# Altium schematic symbol library GhaniLibrary.SchLib: 30 symbols
Pins are listed as number, name and electrical type; pins without a type are passive.

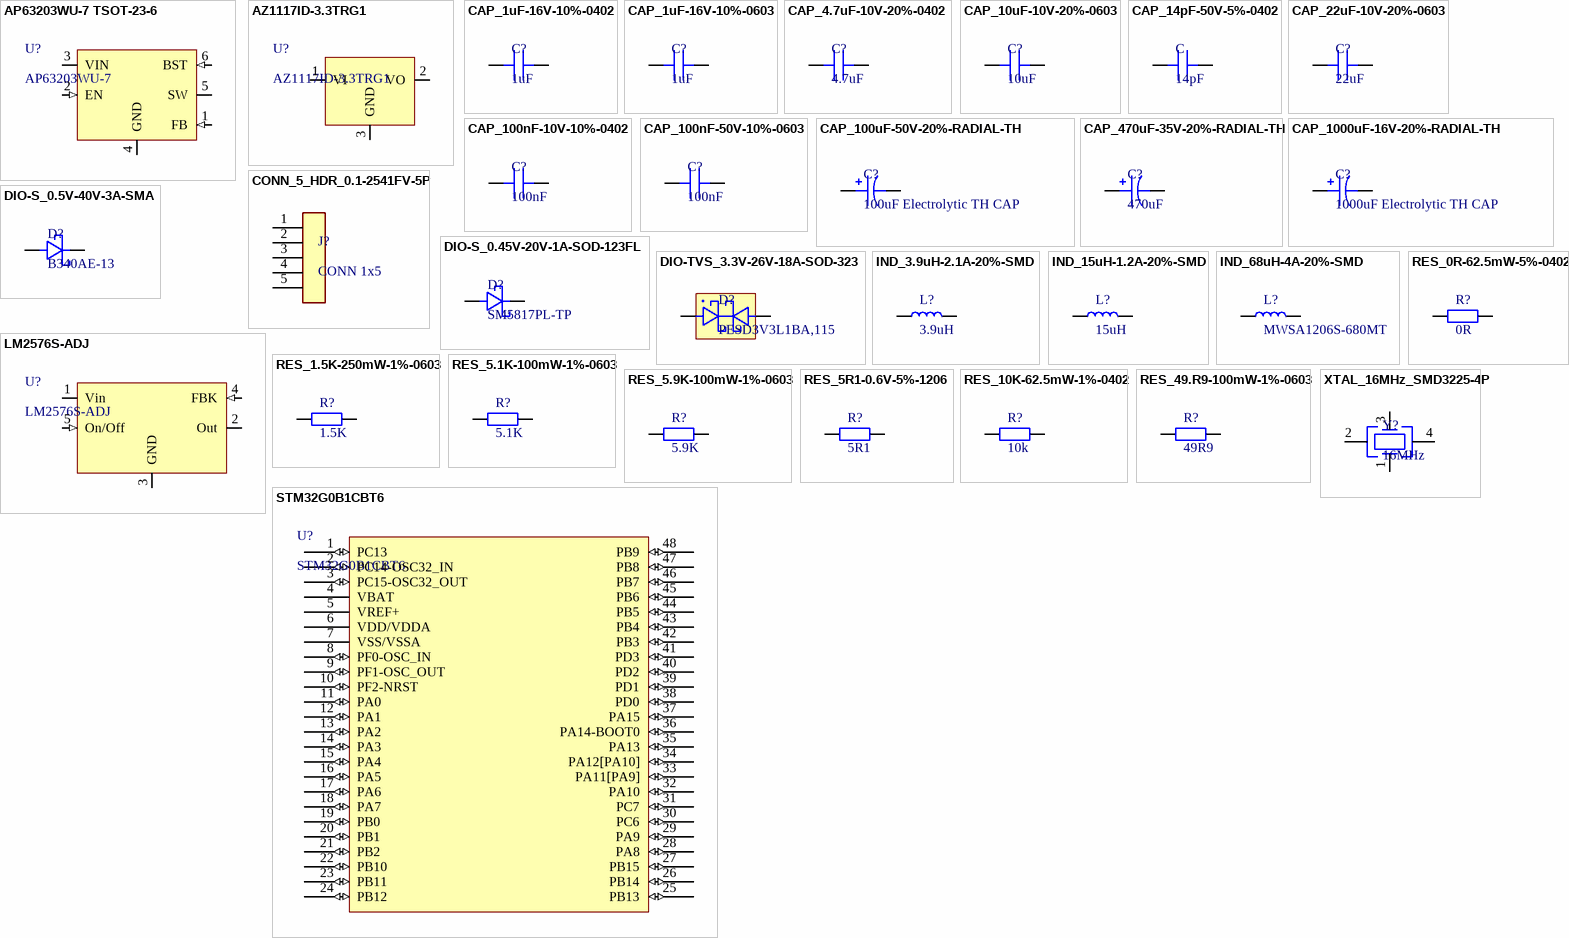
[diagram p0: symbols AP63203WU-7 TSOT-23-6 to XTAL_16MHz_SMD3225-4P]

## AP63203WU-7 TSOT-23-6
designator U?, comment AP63203WU-7
Buck Switching Regulator IC Positive Fixed 3.3V 1 Output 2A SOT-23-6 Thin, TSOT-23-6; Manufacturer: Diodes Incorporated; Manufacturer Part #: AP63203WU-7; Case/Package: TSOT-23-6; Supplier: JLCPCB; Supplier Part #: C780769
pins: 1 FB (in), 2 EN (in), 3 VIN (power), 4 GND (power), 5 SW (power), 6 BST (in)

## AZ1117ID-3.3TRG1
designator U?
Linear Voltage Regulator IC Positive Fixed 1 Output 1A TO-252-3; Manufacturer: Diodes Incorporated; Manufacturer Part #: AZ1117ID-3.3TRG1; Case/Package: TO-252-2; Supplier: JLCPCB; Supplier Part #: C2926306
pins: 1 VI (power), 2 VO (power), 3 GND (power)

## CAP_1uF-16V-10%-0402
designator C?, comment 1uF
1 µF ±10% 16V Ceramic Capacitor X5R 0402 (1005 Metric); Manufacturer: Samsung Electro-Mechanics; Manufacturer Part #: CL05A105KO5NNNC; Case/Package: 0402; Supplier: JLCPCB; Supplier Part #: C29266
footprint CAP_0402 (Chip Capacitor, 2-Leads, Body 1.00x0.50mm, IPC Medium Density)
pins: 1 0, 2 0

## CAP_1uF-16V-10%-0603
designator C?, comment 1uF
1 µF ±10% 16V Ceramic Capacitor X7R 0603 (1608 Metric); Manufacturer: YAGEO; Manufacturer Part #: CC0603KRX7R7BB105; Case/Package: 0603; Supplier: JLCPCB; Supplier Part #: C106248
footprint CAP_0603 (Chip Capacitor, 2-Leads, Body 1.60x0.80mm, IPC Medium Density)
pins: 1 0, 2 0

## CAP_4.7uF-10V-20%-0402
designator C?, comment 4.7uF
4.7 µF ±20% 10V Ceramic Capacitor X5R 0402 (1005 Metric); Manufacturer: Samsung Electro-Mechanics; Manufacturer Part #: CL05A475MP5NRNC; Case/Package: 0402; Supplier: JLCPCB; Supplier Part #: Supplier Part #
footprint CAP_0402 (Chip Capacitor, 2-Leads, Body 1.00x0.50mm, IPC Medium Density)
pins: 1 0, 2 0

## CAP_10uF-10V-20%-0603
designator C?, comment 10uF
10 µF ±20% 10V Ceramic Capacitor X5R 0603 (1608 Metric); Manufacturer: Murata Electronics; Manufacturer Part #: GRM188R61A106ME69D; Case/Package: 0603; Supplier: JLCPCB; Supplier Part #: C90053
footprint CAP_0603 (Chip Capacitor, 2-Leads, Body 1.60x0.80mm, IPC Medium Density)
pins: 1 0, 2 0

## CAP_14pF-50V-5%-0402
designator C, comment 14pF
50V 14pF NP0 ±5% 0402 Multilayer Ceramic Capacitors MLCC - SMD/SMT ROHS; Manufacturer: Walsin Tech Corp; Manufacturer Part #: 0402N140J500CT; Case/Package: 0402; Supplier: JLCPCB; Supplier Part #: C458857
footprint CAP_0402 (Chip Capacitor, 2-Leads, Body 1.00x0.50mm, IPC Medium Density)
pins: 1 0, 2 0

## CAP_22uF-10V-20%-0603
designator C?, comment 22uF
22 µF ±20% 10V Ceramic Capacitor X5R 0603 (1608 Metric); Manufacturer: Samsung Electro-Mechanics; Manufacturer Part #: CL10A226MP8NUNE; Case/Package: 0603; Supplier: JLCPCB; Supplier Part #: C86295
footprint CAP_0603 (Chip Capacitor, 2-Leads, Body 1.60x0.80mm, IPC Medium Density)
pins: 1 0, 2 0

## CAP_100nF-10V-10%-0402
designator C?, comment 100nF
0.1 µF ±10% 10V Ceramic Capacitor X7R 0402 (1005 Metric); Manufacturer: Samsung Electro-Mechanics; Manufacturer Part #: CL05B104KP5NNNC; Case/Package: 0402; Supplier: JLCPCB; Supplier Part #: C133086
footprint CAP_0402 (Chip Capacitor, 2-Leads, Body 1.00x0.50mm, IPC Medium Density)
pins: 1 0, 2 0

## CAP_100nF-50V-10%-0603
designator C?, comment 100nF
0.1 µF ±10% 50V Ceramic Capacitor X7R 0603 (1608 Metric); Manufacturer: KEMET; Manufacturer Part #: C0603C104K5RACAUTO; Case/Package: 0603; Supplier: JLCPCB; Supplier Part #: C129621
footprint CAP_0603 (Chip Capacitor, 2-Leads, Body 1.60x0.80mm, IPC Medium Density)
pins: 1 0, 2 0

## CAP_100uF-50V-20%-RADIAL-TH
designator C?, comment 100uF Electrolytic TH CAP
100 µF 50 V Aluminum Electrolytic Capacitors Radial, Can 8000 Hrs @ 105°C; Manufacturer: Rubycon; Manufacturer Part #: 50ZLH100MEFC8X11.5; Case/Package: TH,D8xL11.5mm; Supplier: JLCPCB; Supplier Part #: C109393
footprint CAP-THT-Radial__D5.0mmP3.5mm
pins: 1 0, 2 0

## CAP_470uF-35V-20%-RADIAL-TH
designator C?, comment 470uF
470 µF 35 V Aluminum Electrolytic Capacitors Radial, Can 10000 Hrs @ 105°C; Manufacturer: Rubycon; Manufacturer Part #: 35ZLH470MEFC10X16; Case/Package: TH,D10xL16mm; Supplier: JLCPCB; Supplier Part #: C338196
footprint CAP-THT_RADIAL_D10.00mm_P5.00mm
pins: 1 0, 2 0

## CAP_1000uF-16V-20%-RADIAL-TH
designator C?, comment 1000uF Electrolytic TH CAP
1000 µF 16 V Aluminum Electrolytic Capacitors Radial, Can 10000 Hrs @ 105°C; Manufacturer: Rubycon; Manufacturer Part #: 16ZLH1000MEFC10X16; Case/Package: TH,D10xL16mm; Supplier: JLCPCB; Supplier Part #: C338175
footprint CAP-THT_RADIAL_D10.00mm_P5.00mm
pins: 1 0, 2 0

## CONN_5_HDR_0.1-2541FV-5P
designator J?, comment CONN 1x5
2.54mm 3A Single Row -40℃~+105℃ 250V 5P Direct Insert 1x5P Top Square Hole Plugin,P=2.54mm Female Headers ROHS; Manufacturer: HanElectricity; Manufacturer Part #: 2541FV-5P; Case/Package: P=2.54mm; Supplier: JLCPCB; Supplier Part #: C18723050
pins: 1, 2, 3, 4, 5

## DIO-S_0.5V-40V-3A-SMA
designator D?, comment B340AE-13
Diode 40 V 3A Surface Mount SMA; Manufacturer: DIODES INCORPORATED; Manufacturer Part #: B340AE-13; Case/Package: SMA; Supplier: JLCPCB; Supplier Part #: C168859
footprint DO-214AC, SMA
pins: A 1, K 2

## DIO-S_0.45V-20V-1A-SOD-123FL
designator D?, comment SM5817PL-TP
Diode 20 V 1A Surface Mount SOD-123FL; Manufacturer: MCC(Micro Commercial Components); Manufacturer Part #: SM5817PL-TP; Case/Package: SOD-123FL; Supplier: JLCPCB; Supplier Part #: C669022
pins: A 1, K 2

## DIO-TVS_3.3V-26V-18A-SOD-323
designator D?, comment PESD3V3L1BA,115
26V Clamp 18A (8/20µs) Ipp Tvs Diode Surface Mount SOD-323; Manufacturer: Nexperia; Manufacturer Part #: PESD3V3L1BA,115; Case/Package: SOD-323; Supplier: JLCPCB; Supplier Part #: C51450
footprint SC-76, SOD-323 (SODFL, 2-Leads, Body 1.25x2.50mm, IPC Medium Density)
pins: K1 1, K2 2

## IND_3.9uH-2.1A-20%-SMD
designator L?, comment 3.9uH
3.9 µH Shielded Drum Core, Wirewound Inductor 1.5 A 115mOhm Max Nonstandard; Manufacturer: Sunlord; Manufacturer Part #: SPH3015H3R9MT; Case/Package: SMD,3x3mm; Supplier: JLCPCB; Supplier Part #: C431700
footprint IND_SMD-3.00MMX3.00MM (Precision Wire Wound Inductor, 2-Leads, Body 3.00x3.00mm, IPC Medium Density)
pins: 1, 2

## IND_15uH-1.2A-20%-SMD
designator L?, comment 15uH
15 µH Shielded Drum Core, Wirewound Inductor 1.2 A 198mOhm Max Nonstandard; Manufacturer: Taiyo Yuden; Manufacturer Part #: NRS5020T150MMGJ; Case/Package: SMD,4.9x4.9mm; Supplier: JLCPCB; Supplier Part #: C222920
footprint IND-SMD_ 4.90x4.90mm (Precision Wire Wound Inductor, 2-Leads, Body 4.90x4.90mm, IPC Medium Density)
pins: 1, 2

## IND_68uH-4A-20%-SMD
designator L?, comment MWSA1206S-680MT
68 µH Shielded Drum Core, Wirewound Inductor 4 A 140mOhm Max Nonstandard; Manufacturer: Sunlord; Manufacturer Part #: MWSA1206S-680MT; Case/Package: SMD,13.5x12.6mm; Supplier: JLCPCB; Supplier Part #: C408532
footprint IND-SMD_13.45x12.45mm (Precision Wire Wound Inductor, 2-Leads, Body 13.45x12.45mm, IPC Medium Density)
pins: 1, 2

## LM2576S-ADJ
designator U?
Buck Switching Regulator IC Positive Adjustable 1 Output 3A TO-263-6, D2PAK (5 Leads + Tab), TO-263BA; Manufacturer: UMW(Youtai Semiconductor Co., Ltd.); Manufacturer Part #: LM2576S-ADJ; Case/Package: TO-263-5; Supplier: JLCPCB; Supplier Part #: C347415
footprint TO-263-6, D2PAK (5 Leads + Tab), TO-263BA (D2-PAK, 6-Pads (5 Leads + Tab), Body 7.55x8.56mm (max), IPC Medium Density)
pins: 1 Vin (power), 2 Out (power), 3 GND (power), 4 FBK (in), 5 On/Off (in)

## RES_0R-62.5mW-5%-0402
designator R?, comment 0R
0 Ohms Jumper Chip Resistor 0402 (1005 Metric) Moisture Resistant Thick Film; Manufacturer: YAGEO; Manufacturer Part #: RC0402JR-070RL; Case/Package: 0402; Supplier: JLCPCB; Supplier Part #: C60485
footprint RES_0402 (Chip Resistor, 2-Leads, Body 1.00x0.50mm, IPC Medium Density)
pins: 1, 2

## RES_1.5K-250mW-1%-0603
designator R?, comment 1.5K
RES 1.5K OHM 1% 250mW SMD-0603 Thick film Resistor; Manufacturer: PANASONIC; Manufacturer Part #: ERJPA3F1501V; Case/Package: 0603; Supplier: JLCPCB; Supplier Part #: C543357
footprint RES_0603 (Chip Resistor, 2-Leads, Body 1.60x0.80mm, IPC Medium Density)
pins: 1, 2

## RES_5.1K-100mW-1%-0603
designator R?, comment 5.1K
5.1 kOhms ±1% 0.1W, 1/10W Chip Resistor 0603 (1608 Metric) Moisture Resistant Thick Film; Manufacturer: YAGEO; Manufacturer Part #: RC0603FR-075K1L; Case/Package: 0603; Supplier: JLCPCB; Supplier Part #: C105580
footprint RES_0603 (Chip Resistor, 2-Leads, Body 1.60x0.80mm, IPC Medium Density)
pins: 1, 2

## RES_5.9K-100mW-1%-0603
designator R?, comment 5.9K
RES 5.9K OHM 1% 100mW SMD-0603 Thick film Resistor; Manufacturer: PANASONIC; Manufacturer Part #: ERJ3EKF5901V; Case/Package: 0603; Supplier: JLCPCB; Supplier Part #: C403290
footprint RES_0603 (Chip Resistor, 2-Leads, Body 1.60x0.80mm, IPC Medium Density)
pins: 1, 2

## RES_5R1-0.6V-5%-1206
designator R?, comment 5R1
600mW Thick Film Resistors 200V ±5% ±400ppm/℃ 5.1Ω 1206 Chip Resistor - Surface Mount; Manufacturer: UNI-ROYAL(Uniroyal Elec); Manufacturer Part #: AS0606J051JT5E; Case/Package: 1206; Supplier: JLCPCB; Supplier Part #: C966043
footprint RES_1206 (Chip Resistor, 2-Leads, Body 3.10x1.60mm, IPC Medium Density)
pins: 1, 2

## RES_10K-62.5mW-1%-0402
designator R?, comment 10k
10 kOhms ±1% 0.063W, 1/16W Chip Resistor 0402 (1005 Metric) Moisture Resistant Thick Film; Manufacturer: YAGEO; Manufacturer Part #: RC0402FR-0710KL; Case/Package: 0402; Supplier: JLCPCB; Supplier Part #: C60490
footprint RES_0402 (Chip Resistor, 2-Leads, Body 1.00x0.50mm, IPC Medium Density)
pins: 1, 2

## RES_49.R9-100mW-1%-0603
designator R?, comment 49R9
49.9 Ohms ±1% 0.1W, 1/10W Chip Resistor 0603 (1608 Metric) Automotive AEC-Q200 Thick Film; Manufacturer: PANASONIC; Manufacturer Part #: ERJ3EKF49R9V; Case/Package: 0603; Supplier: JLCPCB; Supplier Part #: C403255
footprint RES_0603 (Chip Resistor, 2-Leads, Body 1.60x0.80mm, IPC Medium Density)
pins: 1, 2

## STM32G0B1CBT6
designator U?
ARM® Cortex®-M0+ STM32G0 Microcontroller IC 32-Bit Single-Core 64MHz 128KB (128K x 8) FLASH 48-LQFP (7x7); Manufacturer: STMicroelectronics; Manufacturer Part #: STM32G0B1CBT6; Case/Package: 48-LQFP (7x7); Supplier: JLCPCB; Supplier Part #: C2847904
footprint 48-LQFP (7x7mm) (LQFP, 48-Leads, Body 7.00x7.00mm, Pitch 0.50mm, IPC Medium Density)
pins: 1 PC13 (io), 2 PC14-OSC32_IN (io), 3 PC15-OSC32_OUT (io), 4 VBAT (power), 5 VREF+ (power), 6 VDD/VDDA (power), 7 VSS/VSSA (power), 8 PF0-OSC_IN (io), 9 PF1-OSC_OUT (io), 10 PF2-NRST (io), 11 PA0 (io), 12 PA1 (io), 13 PA2 (io), 14 PA3 (io), 15 PA4 (io), 16 PA5 (io), 17 PA6 (io), 18 PA7 (io), 19 PB0 (io), 20 PB1 (io), 21 PB2 (io), 22 PB10 (io), 23 PB11 (io), 24 PB12 (io), 25 PB13 (io), 26 PB14 (io), 27 PB15 (io), 28 PA8 (io), 29 PA9 (io), 30 PC6 (io), 31 PC7 (io), 32 PA10 (io), 33 PA11[PA9] (io), 34 PA12[PA10] (io), 35 PA13 (io), 36 PA14-BOOT0 (io), 37 PA15 (io), 38 PD0 (io), 39 PD1 (io), 40 PD2 (io), 41 PD3 (io), 42 PB3 (io), 43 PB4 (io), 44 PB5 (io), 45 PB6 (io), 46 PB7 (io), 47 PB8 (io), 48 PB9 (io)

## XTAL_16MHz_SMD3225-4P
designator Y?, comment 16MHz
16MHz SMD crystal oscillator 12pF ±10ppm ±30ppm SMD3225-4P Crystals ROHS; Manufacturer: SJK(SHENZHEN CRYSTAL TECH); Manufacturer Part #: 7U16000E12UCG; Case/Package: SMD3225-4P; Supplier: JLCPCB; Supplier Part #: C251610
footprint SMD3225-4P
pins: 1 OSC, 2 GND (power), 3 OSC, 4 GND (power)